# Altium schematic symbol library ATA6560-GAQW-N.SchLib: 1 symbol
Pins are listed as number, name and electrical type; pins without a type are passive.

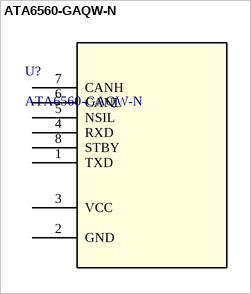
[diagram p0: symbol ATA6560-GAQW-N]

## ATA6560-GAQW-N
designator U?
Description; Manufacturer_Name: Microchip; Copyright: Copyright (C) 2025 Ultra Librarian. All rights reserved.; Manufacturer_Part_Number: ATA6560-GAQW-N; RefDes: RefDes; Type: Type
footprint SOIC8_4P9X3P9MC_MCH
pins: 1 TXD, 2 GND (power), 3 VCC (power), 4 RXD, 5 NSIL, 6 CANL, 7 CANH, 8 STBY